# EAGLE library part 74AHC3G14DP,125 (library 74AHC3G14DP_125)
74AHC(T)3G14 - Triple inverting Schmitt trigger@en-us Source: Datasheet <https://assets.nexperia.com/documents/data-sheet/74AHC_AHCT3G14.pdf>
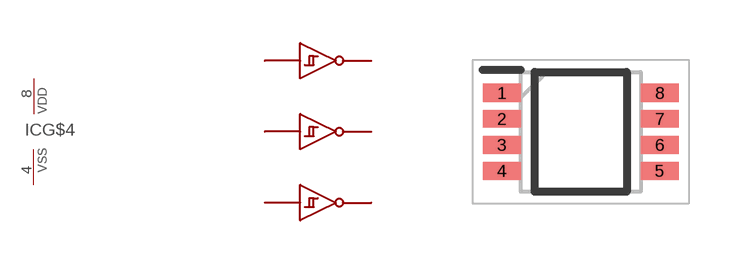
[diagram p0: symbol with the pads of SOP65P400X110-8N; footprint SOP65P400X110-8N]

Designator prefix IC; gates G$1=INVERTER G$2=INVERTER G$3=INVERTER G$4=PWRN

## 74AHC3G14DP,125 (DESCRIPTION: 74AHC(T)3G14 - Triple inverting Schmitt trigger@en-us; HEIGHT: 1.1mm; MANUFACTURER_NAME: Nexperia; MANUFACTURER_PART_NUMBER: 74AHC3G14DP,125; MOUSER_PART_NUMBER: 771-AHC3G14DP125; MOUSER_PRICE-STOCK: https://www.mouser.co.uk/ProductDetail/Nexperia/74AHC3G14DP125?qs=P62ublwmbi8pkJ4kOimCvQ%3D%3D)  [SOP65P400X110-8N]
1  G$1:A
2  G$3:Y
3  G$2:A
4  G$4:VSS  pwr
5  G$2:Y
6  G$3:A
7  G$1:Y
8  G$4:VDD  pwr

## Footprint SOP65P400X110-8N (pad centres in mm)
SOT505-2
smd 0.95 x 0.45: 1 -1.975,0.975; 2 -1.975,0.325; 3 -1.975,-0.325; 4 -1.975,-0.975; 5 1.975,-0.975; 6 1.975,-0.325; 7 1.975,0.325; 8 1.975,0.975